# Altium schematic symbol library Arduino幻彩灯带.SCHLIB: 15 symbols
Pins are listed as number, name and electrical type; pins without a type are passive.

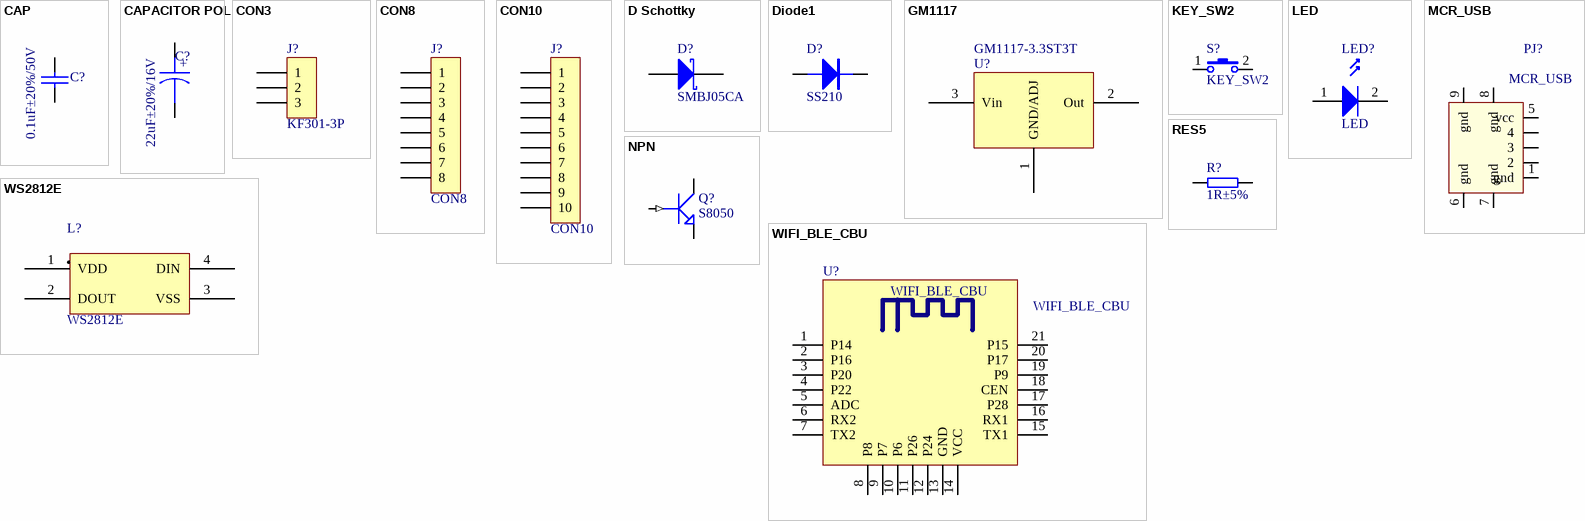
[diagram p0: symbols CAP to WS2812E]

## CAP
designator C?, comment 0.1uF±20%/50V
Capacitor
footprint 0805
footprint 0603
footprint C0603
footprint C0805
footprint C0805
pins: 1, 2

## CAPACITOR POL
designator C?, comment 22uF±20%/16V
Capacitor
footprint CD0.15
footprint CD0.15
footprint CD0.1
footprint 钽电容B3528
pins: 1, 2
text: +

## CON3
designator J?, comment KF301-3P
Connector
footprint SIP3 - 2.54
footprint DG7620-3P
footprint CON3-5.0 (DG128-5.0-2P-14)
pins: 1, 2, 3

## CON8
designator J?
Connector
footprint HDR1X8Z (Connector; Header; 8 Position)
pins: 1, 2, 3, 4, 5, 6, 7, 8
2 alternate drawings of the same symbol

## CON10
designator J?
Connector
footprint HDR1X10Z (Connector; Header; 10 Position)
pins: 1, 2, 3, 4, 5, 6, 7, 8, 9, 10
2 alternate drawings of the same symbol

## D Schottky
designator D?, comment SMBJ05CA
Schottky Diode; MFR: Toshiba
footprint SMB(DO-214AA)
pins: 1 A, 2 K

## Diode1
designator D?, comment SS210
Diode
footprint SMB(DO-214AA)
footprint SOD-323
footprint SSCD204L
footprint MiniMELF(SOD-80) (LL41481)
footprint SMA(DO-214AC)
pins: 1, 2

## GM1117
designator U?, comment GM1117-3.3ST3T
footprint SOT-223
pins: 1 GND/ADJ, 2 Out, 3 Vin

## KEY_SW2
designator S?
footprint KEY_S4
footprint KEY_S4 - 2
footprint KEY4-SMD
pins: 1, 2

## LED
designator LED?
Published: *; LatestRevisionDate: *; LatestRevisionNote: *; DatasheetDocument: *; PackageDocument: *; PackageReference: *; Publisher: *; ComponentLink1Description: *; ComponentLink1URL: *; Code_JEDEC: *
footprint LED0805_1
footprint LED
pins: 1, 2
2 alternate drawings of the same symbol

## MCR_USB
designator PJ?
Published: *; Revision 1: *; Revision 2: *; Datasheet: *; Publisher: *
footprint MICRO_USB-NEW-16.12.12
pins: 1 gnd, 2, 3, 4, 5 vcc, 6 gnd, 7 gnd, 8 gnd, 9 gnd
2 alternate drawings of the same symbol

## NPN
designator Q?, comment S8050
NPN Transistor
footprint SOT-23-NPN
pins: 1 E, 2 B (in), 3 C

## RES5
designator R?, comment 1R±5%
footprint R1/4W
footprint R1/2W
footprint R1/4WL
footprint 0603
footprint R0603
footprint R0805
footprint R-1/6W
footprint R0805
pins: 1, 2

## WIFI_BLE_CBU
designator U?
Module
footprint WIFI_BLE_CBU
pins: 1 P14, 2 P16, 3 P20, 4 P22, 5 ADC, 6 RX2, 7 TX2, 8 P8, 9 P7, 10 P6, 11 P26, 12 P24, 13 GND, 14 VCC, 15 TX1, 16 RX1, 17 P28, 18 CEN, 19 P9, 20 P17, 21 P15
2 alternate drawings of the same symbol

## WS2812E
designator L?
footprint WS2812E
pins: 1 VDD, 2 DOUT, 3 VSS, 4 DIN
text: .